# Altium footprint library YuHunXP.PcbLib: 22 footprints (part 2 of 2)
Each footprint in its own frame and in the unit in brackets; x right, y up, seen from the top. Pads: shape width x height; smd on the part's side, far side on the other; paste and mask are expansions set on the pad; w line width, h text height; cw(c..) or ccw(c..) is an arc to the next point about the centre after c.
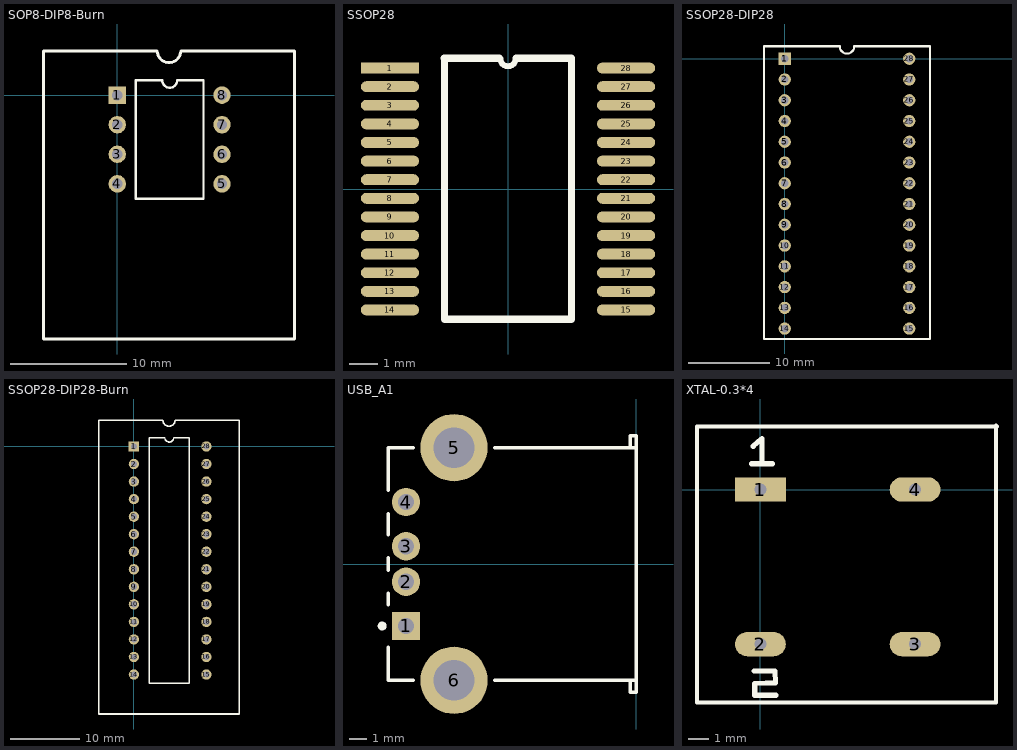
[diagram p1: the footprints below, top view; thin cyan lines are the x and y axes]

## SOP8-DIP8-Burn [mm] "SOP8-DIP8烧录座"
pads (8):
  rect 1.5x1.5 hole 0.9: 1(0,0)
  round 1.5 hole 0.9: 2(0,-2.54) 3(0,-5.08) 4(0,-7.62) 5(9,-7.62) 6(9,-5.08) 7(9,-2.54) 8(9,0)
Top Overlay:
  lines w0.2: 1.585,-8.89 1.585,1.27 3.865,1.27 ccw(c4.5,1.27) 5.135,1.27 7.415,1.27 7.415,-8.89 1.585,-8.89
  lines w0.254: -6.35,-20.955 -6.35,3.81 3.429,3.81 ccw(c4.445,3.81) 5.461,3.81 15.24,3.81 15.24,-20.955 -6.35,-20.955

## SSOP28 [mil] "脚距0.65mm"
pads (28):
  rect 80x15 smd: 1(-162.5,166.4)
  oval 80x15 smd: 2(-162.5,140.8) 3(-162.5,115.2) 4(-162.5,89.6) 5(-162.5,64) 6(-162.5,38.4) 7(-162.5,12.8) 8(-162.5,-12.8) 9(-162.5,-38.4) 10(-162.5,-64) 11(-162.5,-89.6) 12(-162.5,-115.2) 13(-162.5,-140.8) 14(-162.5,-166.4) 15(162.5,-166.4) 16(162.5,-140.8) 17(162.5,-115.2) 18(162.5,-89.6) 19(162.5,-64) 20(162.5,-38.4) 21(162.5,-12.8) 22(162.5,12.8) 23(162.5,38.4) 24(162.5,64) 25(162.5,89.6) 26(162.5,115.2) 27(162.5,140.8) 28(162.5,166.4)
Top Overlay:
  lines w7.87: -10.35,179.2 ccw(c0,179.2) 10.35,179.2
  lines w10: -88,180 -12,180 ; -87.5,179.2 -87.5,-179.2 87.5,-179.2 87.5,179.2 ; 11,180 87,180

## SSOP28-DIP28 [mm] "SSOP28-DIP28转接板"
pads (28):
  rect 1.5x1.5 hole 0.9: 1(0,0)
  round 1.5 hole 0.9: 2(0,-2.54) 3(0,-5.08) 4(0,-7.62) 5(0,-10.16) 6(0,-12.7) 7(0,-15.24) 8(0,-17.78) 9(0,-20.32) 10(0,-22.86) 11(0,-25.4) 12(0,-27.94) 13(0,-30.48) 14(0,-33.02) 15(15.24,-33.02) 16(15.24,-30.48) 17(15.24,-27.94) 18(15.24,-25.4) 19(15.24,-22.86) 20(15.24,-20.32) 21(15.24,-17.78) 22(15.24,-15.24) 23(15.24,-12.7) 24(15.24,-10.16) 25(15.24,-7.62) 26(15.24,-5.08) 27(15.24,-2.54) 28(15.24,0)
Top Overlay:
  lines w0.254: -2.54,-34.29 -2.54,1.524 6.731,1.524 ccw(c7.62,1.524) 8.509,1.524 17.78,1.524 17.78,-34.29 -2.54,-34.29

## SSOP28-DIP28-Burn [mm] "SSOP28-DIP28烧录座"
pads (28):
  rect 1.5x1.5 hole 0.9: 1(0,0)
  round 1.5 hole 0.9: 2(0,-2.54) 3(0,-5.08) 4(0,-7.62) 5(0,-10.16) 6(0,-12.7) 7(0,-15.24) 8(0,-17.78) 9(0,-20.32) 10(0,-22.86) 11(0,-25.4) 12(0,-27.94) 13(0,-30.48) 14(0,-33.02) 15(10.5,-33.02) 16(10.5,-30.48) 17(10.5,-27.94) 18(10.5,-25.4) 19(10.5,-22.86) 20(10.5,-20.32) 21(10.5,-17.78) 22(10.5,-15.24) 23(10.5,-12.7) 24(10.5,-10.16) 25(10.5,-7.62) 26(10.5,-5.08) 27(10.5,-2.54) 28(10.5,0)
Top Overlay:
  lines w0.2: 2.208,-34.29 8.038,-34.29 8.038,1.27 5.758,1.27 cw(c5.123,1.27) 4.488,1.27 2.208,1.27 2.208,-34.29
  lines w0.254: -5.08,-38.735 15.24,-38.735 15.24,3.81 5.969,3.81 cw(c5.08,3.81) 4.191,3.81 -5.08,3.81 -5.08,-38.735

## USB_A1 [mm]
height 7.01
pads (6):
  rect 1.6x1.6 hole 0.92: 1(-12.99,-3.5)
  round 1.6 hole 0.92: 2(-12.99,-1) 3(-12.99,1) 4(-12.99,3.5)
  round 3.8 hole 2.3: 5(-10.28,6.57) 6(-10.28,-6.57)
Top Overlay:
  circle w0.25: c-14.34,-3.5 r0.125
  lines w0.2: -14,-4.7 -14,-6.565 -12.58,-6.565 ; -14,-2.3 -14,-1.66 ; -14,-0.34 -14,0.34 ; -14,1.66 -14,2.84 ; -14,4.16 -14,6.565 -12.58,6.565 ; -7.98,-6.565 0,-6.565 ; -7.98,6.565 0,6.565 ; -0.32,-6.565 -0.32,-7.25 0,-7.25 0,-6.565 ; -0.32,6.565 -0.32,7.25 0,7.25 0,6.565 ; 0,-6.565 0,6.565

## XTAL-0.3*4 [mm] "125Mhz有源晶振，正方形四脚"
height 12
pads (4):
  rect 2.5x1.2 hole 0.6: 1(0,0)
  oval 2.5x1.2 hole 0.6: 2(0,-7.62) 3(7.62,-7.62) 4(7.62,0)
Top Overlay:
  lines w0.2: 11.608,3.15 11.608,-10.49 -3.124,-10.49 -3.124,3.099 11.659,3.099
  lines w0.254: -0.432,1.27 0.584,1.27 ; -0.356,2.134 0.051,2.489 ; -0.305,-8.941 0.713,-8.941 0.737,-9.525 -0.279,-9.55 -0.279,-10.135 0.762,-10.135 ; 0.076,1.321 0.076,2.515